# Altium footprint library TO-126.PcbLib: 1 footprints
Each footprint in its own frame and in the unit in brackets; x right, y up, seen from the top. Pads: shape width x height; smd on the part's side, far side on the other; paste and mask are expansions set on the pad; w line width, h text height; cw(c..) or ccw(c..) is an arc to the next point about the centre after c.
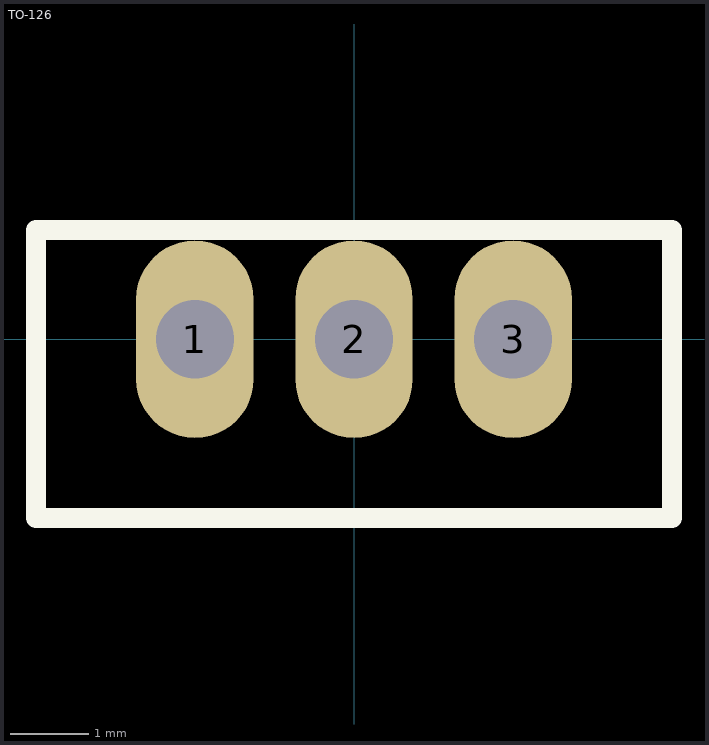
[diagram p0: the footprint, top view; thin cyan lines are the x and y axes]

## TO-126 [mm]
pads (3):
  oval 1.5x2.524 hole 1: 1(-2.032,0) 2(0,0) 3(2.032,0)
Top Overlay:
  lines w0.254: -4.064,1.397 4.064,1.397 ; -4.064,1.397 -4.064,-2.286 4.064,-2.286 4.064,1.397 ; -4.064,1.397 4.064,1.397
Bottom Overlay:
  lines w0.254: -4.064,-1.524 4.064,-1.524 4.064,1.397 -4.064,1.397 -4.064,-1.524
3D body "TO-126 (bend).STEP": height 15.5, standoff -9.4, extent -4,-2.25 4,1.35